# Altium schematic symbol library 691 233 710 0xx.SchLib: 2 symbols
Pins are listed as number, name and electrical type; pins without a type are passive.

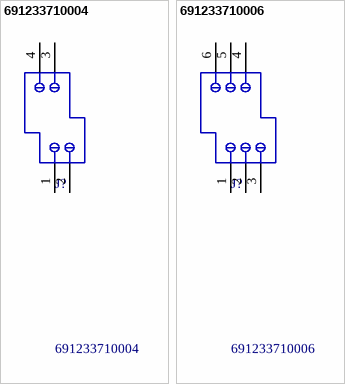
[diagram p0: symbols 691233710004 to 691233710006]

## 691233710004
designator J?
WR-TBL Double Level Horizontal Entry Modular with Rising Clamp,Serie 2337 - 5.00 mm; Manufacturer: Würth Elektronik eiSos GmbH; ComponentLink1 Description: Manufacturer; ComponentLink2 Description: Datasheet; NoPins: 4; Created Date: 27 Novenber 2013; partNo: 691233710004; ComponentLink1URL: http://www.we-online.com; ComponentLink2URL: http://katalog.we-online.de/em/datasheet/6912337100xx.pdf; Created by: Karrer Zheng
footprint 691233710004 (5,00mm - modular - 2 rows - Right - horizontal entry with rising cage clamp - 04p - h=31,5mm)
pins: 1, 2, 3, 4

## 691233710006
designator J?
WR-TBL Double Level Horizontal Entry Modular with Rising Clamp,Serie 2337 - 5.00 mm; Manufacturer: Würth Elektronik eiSos GmbH; ComponentLink1 Description: Manufacturer; ComponentLink2 Description: Datasheet; NoPins: 6; Created Date: 27 Novenber 2013; partNo: 691233710006; ComponentLink1URL: http://www.we-online.com; ComponentLink2URL: http://katalog.we-online.de/em/datasheet/6912337100xx.pdf; Created by: Karrer Zheng
footprint 691233710006 (5,00mm - modular - 2 rows - Right - horizontal entry with rising cage clamp - 06p - h=31,5mm)
pins: 1, 2, 3, 4, 5, 6